# EAGLE library part SMH-106-XX-X-S (library samtec)
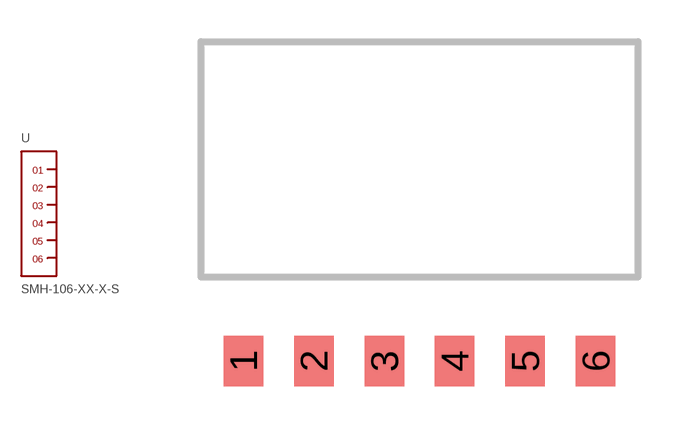
[diagram p4: symbol with the pads of SMH-106-XX-X-S; footprint SMH-106-XX-X-S]

Designator prefix -

## SMH-106-XX-X-S  [SMH-106-XX-X-S]
1  1
2  2
3  3
4  4
5  5
6  6

## Footprint SMH-106-XX-X-S (pad centres in mm)
smd 1.422 x 1.829: 1 -6.35,0; 2 -3.81,0; 3 -1.27,0; 4 1.27,0; 5 3.81,0; 6 6.35,0